# Altium schematic symbol library LM317AEMP.SchLib: 1 symbol
Pins are listed as number, name and electrical type; pins without a type are passive.

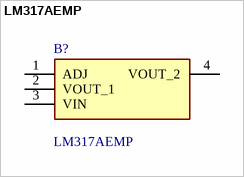
[diagram p0: symbol LM317AEMP]

## LM317AEMP
designator B?
TEXAS INSTRUMENTS - LM317AEMP... - V REG ADJ +1.2/37V, SOT-223-3, 317; Geometry.Height: 1.8mm; Manufacturer_Name: Texas Instruments; Manufacturer_Part_Number: LM317AEMP; Mouser Part Number: 926-LM317AEMP; Mouser Price/Stock: https://www.mouser.co.uk/ProductDetail/Texas-Instruments/LM317AEMP?qs=X1J7HmVL2ZGkQwt18De0Dg%3D%3D; Arrow Part Number: LM317AEMP; Arrow Price/Stock: https://www.arrow.com/en/products/lm317aemp/texas-instruments?region=europe; Datasheet Link: http://www.ti.com/general/docs/lit/getliterature.tsp?genericPartNumber=LM317A&&fileType=pdf
footprint SOT230P700X180-4N
pins: 1 ADJ, 2 VOUT_1, 3 VIN, 4 VOUT_2